# Altium schematic symbol library PGS.SchLib: 33 symbols
Pins are listed as number, name and electrical type; pins without a type are passive.

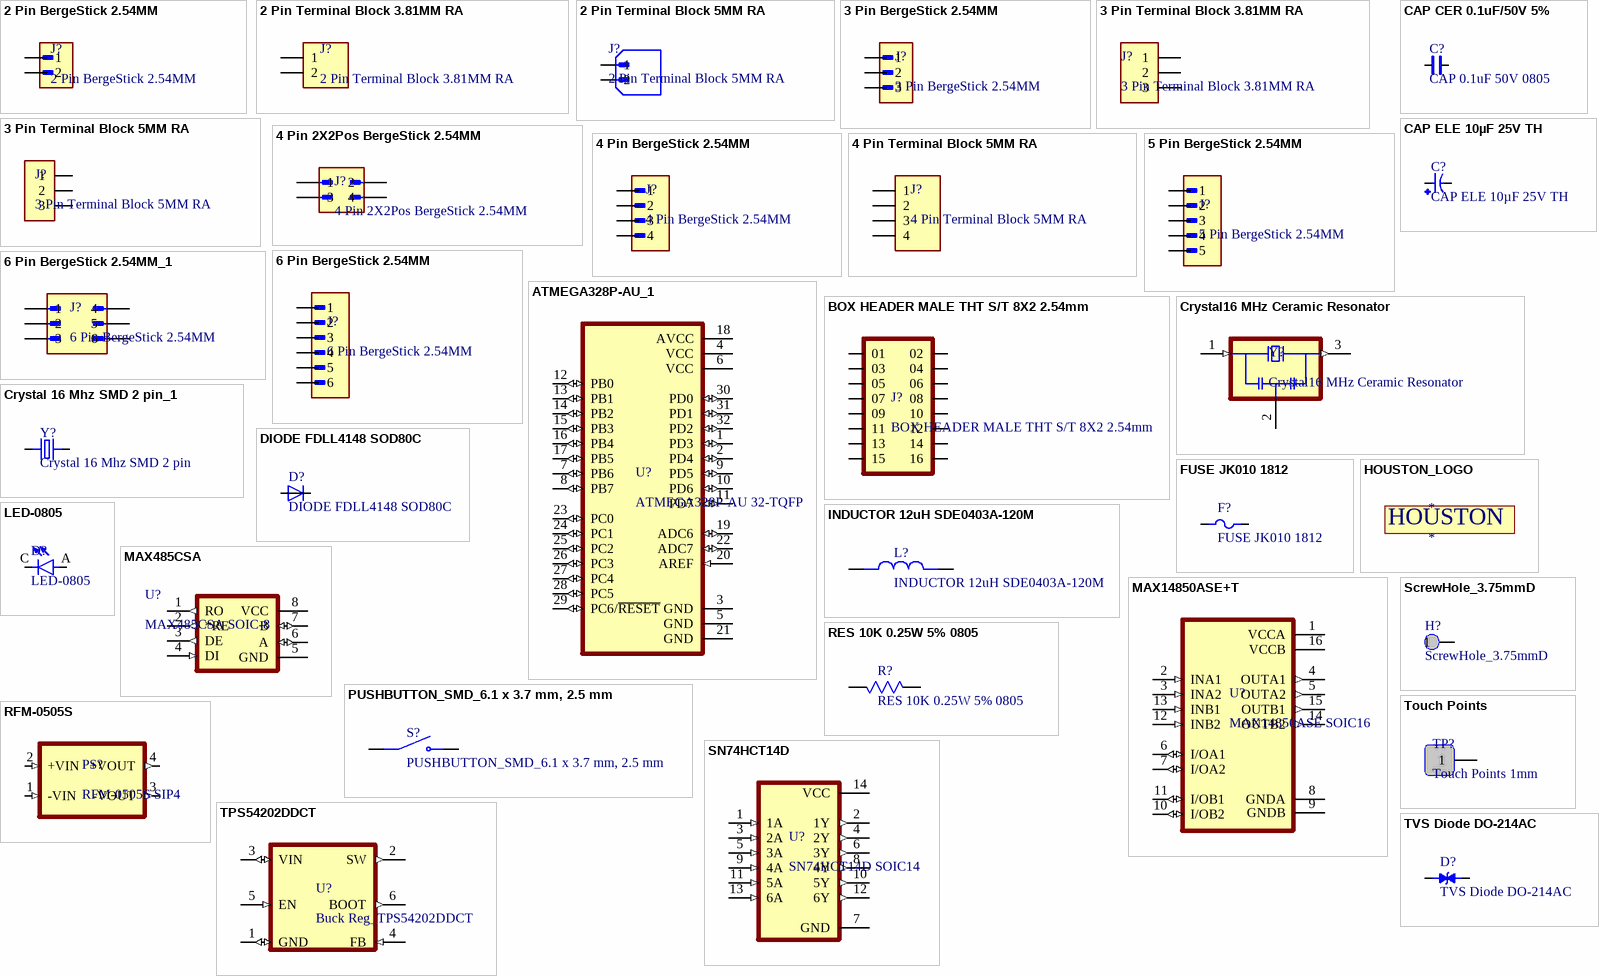
[diagram p0: symbols 2 Pin BergeStick 2.54MM to TVS Diode DO-214AC]

## 2 Pin BergeStick 2.54MM
designator J?
2 Pin 2Pos THT S/T BergeStick 2.54MM Amphenol 68000-402HLF 3A; Package: None; Price: None; Value: *; MP: 68000-402HLF; Availability: Unavailable
footprint 2 Pin BergeStick 2.54MM (2 Pin 2Pos THT BergeStick 2.54MM Amphenol 68000-402HLF 3A AMPHENOL_68000-402HLF)
pins: 1, 2

## 2 Pin Terminal Block 3.81MM RA
designator J?
2 Pin Terminal Block HDR 3.81MM THT RA TBP02R138102BE; MF: Same Sky; MP: TBP02R1-381-02BE; SnapEDA_Link: https://www.snapeda.com/parts/TBP02R1-381-02BE/Same+Sky/view-part/?ref=snap; Package: None; Value: *; Check_prices: https://www.snapeda.com/parts/TBP02R1-381-02BE/Same+Sky/view-part/?ref=eda
footprint 2 Pin Terminal Block 3.81MM RA (2 Pin Terminal Block HDR 3.81MM THT RA TBP02R138102BE)
pins: 1, 2

## 2 Pin Terminal Block 5MM RA
designator J?
2 Pin Terminal Block HDR 5MM THT RA _OQ0271510000G; MF: Amphenol Anytek; SnapEDA_Link: https://www.snapeda.com/parts/OQ0271510000G/Amphenol/view-part/?ref=snap; Package: None; Value: *; MP: OQ0271510000G; Check_prices: https://www.snapeda.com/parts/OQ0271510000G/Amphenol/view-part/?ref=eda
footprint 2 Pin Terminal Block 5MM RA (2 Pin Terminal Block HDR 5MM THT RA_OQ0271510000G)
pins: 1, 2

## 3 Pin BergeStick 2.54MM
designator J?
3 Pin 3Pos THT S/T BergeStick 2.54MM Amphenol 68001-403HLF 3A; Package: None; Price: None; Value: *; MP: 68001-403HLF; Availability: Unavailable
footprint 3 Pin BergeStick 2.54MM (3 Pin 3Pos THT BergeStick 2.54MM Amphenol 68001-403HLF 3A)
pins: 1, 2, 3

## 3 Pin Terminal Block 3.81MM RA
designator J?
3 Pin Terminal Block HDR 3.81MM THT RA 284513-3; MF: TE Connectivity; Purchase-URL: https://pricing.snapeda.com/search/part/284513-3/?ref=eda; Package: None; MP: 284513-3; EU_RoHS_Compliance: Compliant; Price: None; Availability: In Stock; Value: *; Check_prices: https://www.snapeda.com/parts/284513-3/TE+Connectivity+AMP+Connectors/view-part/?ref=eda; SnapEDA_Link: https://www.snapeda.com/parts/284513-3/TE+Connectivity+AMP+Connectors/view-part/?ref=snap
footprint 3 Pin Terminal Block 3.81MM RA (3 Pin Terminal Block HDR 3.81MM THT RA 284513-3)
pins: 1, 2, 3

## 3 Pin Terminal Block 5MM RA
designator J?
3 Pin Terminal Block HDR 5MM THT RA 231-433_001-000; MP: 231-433/001-000; MF: WAGO; SnapEDA_Link: https://www.snapeda.com/parts/231-433/001-000/WAGO/view-part/482062/?ref=snap; Package: None; Availability: Unavailable; Price: None; Value: *
footprint 3 Pin Terminal Block 5MM RA (3 Pin Terminal Block HDR 5MM THT RA 231-433_001-000)
pins: 1, 2, 3

## 4 Pin 2X2Pos BergeStick 2.54MM
designator J?
4 Pin 2X2Pos THT S/T BergeStick 2.54MM Amphenol 67997-104HLF 3A; MF: Amphenol ICC; Value: *; Package: None; Purchase-URL: https://pricing.snapeda.com/search/part/67997-104HLF/?ref=eda; Digi-Key_Part_Number: 609-3225-ND; Check_prices: https://www.snapeda.com/parts/67997-104HLF/Amphenol+FCI/view-part/?ref=eda; MP: 67997-104HLF; SnapEDA_Link: https://www.snapeda.com/parts/67997-104HLF/Amphenol+FCI/view-part/?ref=snap
footprint 4 Pin BergeStick 2.54MM (4 Pin 2X2Pos THT BergeStick 2.54MM Amphenol 67997-104HLF 3A AMPHENOL_67997-104HLF)
pins: 1, 2, 3, 4

## 4 Pin BergeStick 2.54MM
designator J?
4 Pin 4Pos THT S/T BergeStick 2.54MM Amphenol 68001-104HLF 3A; SnapEDA_Link: https://www.snapeda.com/parts/68001-104HLF/Amphenol/view-part/?ref=snap; Package: None; Value: *; MF: Amphenol; MP: 68001-104HLF; Check_prices: https://www.snapeda.com/parts/68001-104HLF/Amphenol/view-part/?ref=eda
footprint 4 Pin BergeStick 2.54MM - duplicate (4 Pin 4Pos THT BergeStick 2.54MM Amphenol 68001-104HLF 3A AMPHENOL_68001-104HLF)
pins: 1, 2, 3, 4

## 4 Pin Terminal Block 5MM RA
designator J?
4 Pin Terminal Block HDR 5MM THT RA OQ0471510000G; MF: Amphenol Anytek; Purchase-URL: https://pricing.snapeda.com/search/part/OQ0471510000G/?ref=eda; Package: None; MP: OQ0471510000G; Price: None; Availability: Warning; Value: *; Check_prices: https://www.snapeda.com/parts/OQ0471510000G/Amphenol/view-part/4900937/?ref=eda; SnapEDA_Link: https://www.snapeda.com/parts/OQ0471510000G/Amphenol/view-part/4900937/?ref=snap
footprint 4 Pin Terminal Block 5MM RA (4 Pin Terminal Block HDR 5MM THT RA OQ0471510000G)
pins: 1, 2, 3, 4

## 5 Pin BergeStick 2.54MM
designator J?
5 Pin 5Pos THT S/T BergeStick 2.54MM Amphenol68002-405HLF 3A; Package: None; Price: None; Value: *; MP: 68002-405HLF; Availability: Unavailable
footprint 5 Pin BergeStick 2.54MM (5 Pin 5Pos THT BergeStick 2.54MM Amphenol 68002-405HLF 3A AMPHENOL_68002-405HLF)
pins: 1, 2, 3, 4, 5

## 6 Pin BergeStick 2.54MM
designator J?
6 Pin 6Pos THT S/T BergeStick 2.54MM Amphenol 68604-406HLF 3A; MF: AMPHENOL ICC / FCI; SnapEDA_Link: https://www.snapeda.com/parts/68604-406HLF/Amphenol/view-part/?ref=snap; Package: None; Value: *; MP: 68604-406HLF; Check_prices: https://www.snapeda.com/parts/68604-406HLF/Amphenol/view-part/?ref=eda
footprint 6 Pin BergeStick 2.54MM (6 Pin 6Pos THT BergeStick 2.54MM Amphenol 68604-406HLF 3A AMPHENOL_68604-406HLF)
pins: 1, 2, 3, 4, 5, 6

## 6 Pin BergeStick 2.54MM_1
designator J?, comment 6 Pin BergeStick 2.54MM
6 Pin 3X3Pos THT S/T BergeStick 2.54MM Amphenol 69192-406HLF; MF: AMPHENOL ICC / FCI; Package: None; Digi-Key_Part_Number: 609-4711-ND; Check_prices: https://www.snapeda.com/parts/69192-406HLF/Amphenol/view-part/?ref=eda; Value: *; MP: 69192-406HLF; Purchase-URL: https://pricing.snapeda.com/search/part/69192-406HLF/?ref=eda; SnapEDA_Link: https://www.snapeda.com/parts/69192-406HLF/Amphenol/view-part/?ref=snap
footprint 6 Pin BergeStick 2.54MM - duplicate (6 Pin 3X3Pos THT S/T BergeStick 2.54MM Amphenol 69192-406HLF AMPHENOL_69192-406HLF)
pins: 1, 2, 3, 4, 5, 6

## ATMEGA328P-AU_1
designator U?, comment ATMEGA328P-AU 32-TQFP
AVR AVRÂ® ATmega Microcontroller IC 8-Bit 20MHz 32KB (16K x 16) FLASH 32-TQFP (7x7) SMT; MF: Microchip; SnapEDA_Link: https://www.snapeda.com/parts/ATMEGA328P-AU/Microchip/view-part/?ref=snap; Package: TQFP-32 Microchip; Value: *; MP: ATMEGA328P-AU; Check_prices: https://www.snapeda.com/parts/ATMEGA328P-AU/Microchip/view-part/?ref=eda
footprint ATMEGA328P-AU 32-TQFP (AVR AVRÂ® ATmega Microcontroller IC 8-Bit 20MHz 32KB (16K x 16) FLASH 32-TQFP (7x7)QFP80P900X900X120-32N)
pins: 1 PD3 (io), 2 PD4 (io), 3 GND (power), 4 VCC (power), 5 GND (power), 6 VCC (power), 7 PB6 (io), 8 PB7 (io), 9 PD5 (io), 10 PD6 (io), 11 PD7 (io), 12 PB0 (io), 13 PB1 (io), 14 PB2 (io), 15 PB3 (io), 16 PB4 (io), 17 PB5 (io), 18 AVCC (power), 19 ADC6 (io), 20 AREF (in), 21 GND (power), 22 ADC7 (io), 23 PC0 (io), 24 PC1 (io), 25 PC2 (io), 26 PC3 (io), 27 PC4 (io), 28 PC5 (io), 29 PC6/~{RESET} (io), 30 PD0 (io), 31 PD1 (io), 32 PD2 (io)

## BOX HEADER MALE THT S/T 8X2 2.54mm
designator J?
THT BOX HEADER MALE S/T 8X2 2.54mm 16 pin; MP: TSS-108-01-T-D; Availability: Unavailable; Value: *; Price: None; Package: None
footprint BOX HEADER MALE 8X2 2.54mm (BOX HEADER MALE 8X2 2.54mm 16 pin)
pins: 01, 02, 03, 04, 05, 06, 07, 08, 09, 10, 11, 12, 13, 14, 15, 16

## CAP CER 0.1uF/50V 5%
designator C?, comment CAP 0.1uF 50V 0805
CAP CER 0.1uF/50V  Ceramic Capacitor X7R 0805 (2012 Metric) SMT; MF: Samsung; MP: CL21B104KCFNNNE; Purchase-URL: https://pricing.snapeda.com/search?q=CL21B104KCFNNNE&ref=eda; Package: 0805 Samsung; Check_prices: https://www.snapeda.com/parts/CL21B104KCFNNNE/Samsung+Electro-Mechanics/view-part/?ref=eda; Value: *; SnapEDA_Link: https://www.snapeda.com/parts/CL21B104KCFNNNE/Samsung+Electro-Mechanics/view-part/?ref=snap; Digi-Key_Part_Number: 1276-6840-2-ND
footprint CAP CER 0.1uF/50V 5%
pins: 1, 2

## CAP ELE 10µF 25V TH
designator C?
10µF 25V Aluminum Electrolytic Capacitors Radial Lead Type THT, Dia-5mm, Pitch-2mm ECEA1EN100UI; MF: Panasonic; Package: RADIAL-2 Panasonic; Purchase-URL: https://pricing.snapeda.com/search/part/ECEA1EN100UI/?ref=eda; Value: *; Digi-Key_Part_Number: ECE-A1EN100UI-ND; SnapEDA_Link: https://www.snapeda.com/parts/ECEA1EN100UI/Panasonic/view-part/5788532/?ref=snap; MP: ECEA1EN100UI; Check_prices: https://www.snapeda.com/parts/ECEA1EN100UI/Panasonic/view-part/5788532/?ref=eda
footprint CAP ELE 10µF 25V TH (10µF 25V Aluminum Electrolytic Capacitors Radial Lead Type TH, Dia-5mm, Pitch-2mm ECEA1EN100UI)
pins: N, P

## Crystal16 MHz Ceramic Resonator
designator Y?
16 MHz Ceramic Resonator Built in Capacitor 15 pF Â±0.3% -20Â°C ~ 80Â°C SMT-CSTCE16M0V53-R0; MF: Murata; MP: CSTCE16M0V53-R0-; SnapEDA_Link: https://www.snapeda.com/parts/CSTCE16M0V53-R0-/Murata/view-part/?ref=snap; Package: None; Value: *; Check_prices: https://www.snapeda.com/parts/CSTCE16M0V53-R0-/Murata/view-part/?ref=eda
footprint Crystal16 MHz Ceramic Resonator (16 MHz Ceramic Resonator Built in Capacitor 15 pF Â±0.3% -20Â°C ~ 80Â°C Surface Mount-CSTCE16M0V53-R0)
pins: 1 IN (in), 2 GND (power), 3 OUT (out)

## Crystal 16 Mhz SMD 2 pin_1
designator Y?, comment Crystal 16 Mhz SMD 2 pin
16 MHz Â±30ppm Crystal 20pF 60 Ohms HC-49/US FOXSDLF/128-20 16 Mhz Crystal SMD –CSM-4ALX(28ALX) 12.5mmX4.85mmX4mm; MF: Fox Electronics; SnapEDA_Link: https://www.snapeda.com/parts/FOXSDLF/128-20/Fox+Electronics/view-part/?ref=snap; Package: HC49SD Fox Electronics; Value: *; MP: FOXSDLF/128-20; Check_prices: https://www.snapeda.com/parts/FOXSDLF/128-20/Fox+Electronics/view-part/?ref=eda
footprint Crystal 16 Mhz SMD 2 pin (16 MHz Â±30ppm Crystal 20pF 60 Ohms HC-49/US FOXSDLF/128-20 16 Mhz Crystal SMD –CSM-4ALX(28ALX) 12.5mmX4.85mmX4mm)
footprint Crystal 16 Mhz SMD 2 pin (16 MHz Â±30ppm Crystal 20pF 60 Ohms HC-49/US FOXSDLF/128-20 16 Mhz Crystal SMD –CSM-4ALX(28ALX) 12.5mmX4.85mmX4mm)
pins: 1, 2

## DIODE FDLL4148 SOD80C
designator D?
FDLL4148 Diode Standard 75V 200mA _DC_ SMT LLDS; MiniMelf DIODE SOD80C PMLL4148L; MF: Nexperia USA; Value: *; Price: None; Package: SOD-80 NXP Semiconductors; SnapEDA_Link: https://www.snapeda.com/parts/PMLL4148L/Nexperia%20USA%20Inc./view-part/9225/?ref=snap; Availability: Unavailable; MP: PMLL4148L
footprint DIODE SOD80C (Diode Standard 75V 200mA _DC_ Surface Mount LLDS; MiniMelf DIODE SOD80C PMLL4148L)
pins: 1 K, 2 A

## FUSE JK010 1812
designator F?
FUSE JK010 Polymeric PTC Resettable Fuse 60V 100 mA 0.8W SMT 1812 (4532 Metric), Concave HUAAN MF-MSMF010-60V; MP: MF-MSMF010-2; MF: Bourns; Price: None; Availability: In Stock; Package: 1812 Bourns; SnapEDA_Link: https://www.snapeda.com/parts/MF-MSMF010-2/Bourns/view-part/?ref=snap; Check_prices: https://www.snapeda.com/parts/MF-MSMF010-2/Bourns/view-part/?ref=eda; Value: *; Purchase-URL: https://pricing.snapeda.com/search/part/MF-MSMF010-2/?ref=eda
footprint FUSE JK010 1812 (FUSE JK010 Polymeric PTC Resettable Fuse 60V 100 mA 0.8W Ih Surface Mount 1812 (4532 Metric), Concave HUAAN MF-MSMF010-60V)
pins: 1, 2

## HOUSTON_LOGO
designator *
footprint HOUSTON_LOGO
text: HOUSTON

## INDUCTOR 12uH SDE0403A-120M
designator L?
INDUCTOR_2020(5.5mmX4.5mm)  SMT INDUCTOR 12uH SDE0403A-120M0 LQH5BPB4R7NT0L; Package: None; Price: None; Value: *; MP: LQH5BPB4R7NT0L; Availability: Unavailable
footprint INDUCTOR 12uH SDE0403A-120M (INDUCTOR_2020(5.5mmX4.5mm)  SMT INDUCTOR 12uH SDE0403A-120M LQH5BPB4R7NT0L)
pins: 1, 2

## LED-0805
designator D?
Red 640nm LED Indication - Discrete 1.85V 0805 (2012 Metric) SMT APT2012SRCPRV; MF: Kingbright; SnapEDA_Link: https://www.snapeda.com/parts/APT2012SRCPRV/Kingbright/view-part/?ref=snap; Package: 0805 Kingbright; Value: *; MP: APT2012SRCPRV; Check_prices: https://www.snapeda.com/parts/APT2012SRCPRV/Kingbright/view-part/?ref=eda
footprint LED-0805 (Red 640nm LED Indication - Discrete 1.85V 0805 (2012 Metric) APT2012SRCPRV)
pins: A, C

## MAX485CSA
designator U?, comment MAX485CSA SOIC-8
MAX485CSA-RS-485/RS-422 Transceivers, SMT, SOIC-8; MF: Analog Devices; MP: MAX485CSA+; SnapEDA_Link: https://www.snapeda.com/parts/MAX485CSA+/Analog+Devices/view-part/?ref=snap; Package: SOIC-8 Maxim; Value: *; Check_prices: https://www.snapeda.com/parts/MAX485CSA+/Analog+Devices/view-part/?ref=eda
footprint MAX485CSA (MAX485CSA-RS-485/RS-422 Transceivers, SOIC-8)
pins: 1 RO (out), 2 *RE (out), 3 DE (out), 4 DI (in), 5 GND (power), 6 A (io), 7 B (io), 8 VCC (power)

## MAX14850ASE+T
designator U?, comment MAX14850ASE SOIC16
MAX14850ASE SOIC16,SMT Six-Channel Digital Isolator; MF: Analog Devices; MP: MAX14850ASE+T; SnapEDA_Link: https://www.snapeda.com/parts/MAX14850ASE+T/Analog+Devices/view-part/?ref=snap; Package: SOIC-16 Maxim Integrated; Value: *; Check_prices: https://www.snapeda.com/parts/MAX14850ASE+T/Analog+Devices/view-part/?ref=eda
footprint MAX14850ASE (MAX14850ASE SOIC16 Six-Channel Digital Isolator SOIC127P600X175-16N)
pins: 1 VCCA (power), 2 INA1 (in), 3 INA2 (in), 4 OUTA1 (out), 5 OUTA2 (out), 6 I/OA1 (io), 7 I/OA2 (io), 8 GNDA (power), 9 GNDB (power), 10 I/OB2 (io), 11 I/OB1 (io), 12 INB2 (in), 13 INB1 (in), 14 OUTB2 (out), 15 OUTB1 (out), 16 VCCB (power)

## PUSHBUTTON_SMD_6.1 x 3.7 mm, 2.5 mm
designator S?
6.1 x 3.7 mm, 2.5 mm Actuator Height, 260 gf, Red, SMT, SPST, Tactile Switch, TS09-63-25-R-260-SMT-TR; MF: Same Sky; SnapEDA_Link: https://www.snapeda.com/parts/TS09-63-25-R-260-SMT-TR/Same+Sky/view-part/?ref=snap; Package: None; Value: *; MP: TS09-63-25-R-260-SMT-TR; Check_prices: https://www.snapeda.com/parts/TS09-63-25-R-260-SMT-TR/Same+Sky/view-part/?ref=eda
footprint PUSHBUTTON_SMD_6.1 x 3.7 mm, 2.5 mm (6.1 x 3.7 mm, 2.5 mm Actuator Height, 260 gf, Red, Surface Mount, SPST, Tactile Switch, TS09-63-25-R-260-SMT-TR)
pins: 1, 2

## RES 10K 0.25W 5% 0805
designator R?
RESISTOR, THICK FILM, 10K, 5%, 0805 0.25W SMT; MP: ERJ-6GEYJ103V; MF: Panasonic Electronic; Price: None; Check_prices: https://www.snapeda.com/parts/ERJ-6GEYJ103V/Panasonic+Electronic+Components/view-part/?ref=eda; Package: 805-2 Panasonic; Purchase-URL: https://pricing.snapeda.com/search/part/ERJ-6GEYJ103V/?ref=eda; Availability: In Stock; SnapEDA_Link: https://www.snapeda.com/parts/ERJ-6GEYJ103V/Panasonic+Electronic+Components/view-part/?ref=snap; Value: *
footprint RES 0805 10K/0.25W 5% (RESISTOR, THICK FILM, 10K, 5%, 0805, FRESISTOR, THICK FILM, 10K, 5%, 0805, FULL REEL Product Range:PANASONIC - ERJ Series)
pins: 1, 2

## RFM-0505S
designator PS?, comment RFM-0505S SIP4
DC-DC Converter/Isolator, SIP4, THT, 1kV unreg, Single Output, 1W, 5V Out, RFM Series | RECOM Power Inc. RFM-0505S; SnapEDA_Link: https://www.snapeda.com/parts/RFM-0505S/Recom+Power/view-part/?ref=snap; Package: SIP-4 Recom Power; Value: *; MF: Recom Power; MP: RFM-0505S; Check_prices: https://www.snapeda.com/parts/RFM-0505S/Recom+Power/view-part/?ref=eda
footprint RFM-0505S (DC-DC Converter/Isolator, SIP4, 1kV unreg, Single Output, 1W, 5V Out, RFM Series RFM-0505S)
pins: 1 -VIN (in), 2 +VIN (in), 3 -VOUT (out), 4 +VOUT (out)

## ScrewHole_3.75mmD
designator H?
SCREW HEAD DIA 4.5MM, SREW LEG DIA 3 MM
footprint ScrewHole_3.75mmD - duplicate (SCREW HEAD DIA 4.5MM, SREW LEG DIA 3 MM)
pins: 1

## SN74HCT14D
designator U?, comment SN74HCT14D SOIC14
SN74HCT14D SOIC14 6-ch, 4.5-V to 5.5-V inverters with Schmitt-Trigger inputs SMT; MF: Texas Instruments; SnapEDA_Link: https://www.snapeda.com/parts/SN74HCT14D/Texas+Instruments/view-part/?ref=snap; Package: SOIC-14 Texas Instruments; Value: *; MP: SN74HCT14D; Check_prices: https://www.snapeda.com/parts/SN74HCT14D/Texas+Instruments/view-part/?ref=eda
footprint SN74HCT14D SOIC14 (SN74HCT14D SOIC14 6-ch, 4.5-V to 5.5-V inverters with Schmitt-Trigger inputs)
pins: 1 1A (in), 2 1Y (out), 3 2A (in), 4 2Y (out), 5 3A (in), 6 3Y (out), 7 GND (power), 8 4Y (out), 9 4A (in), 10 5Y (out), 11 5A (in), 12 6Y (out), 13 6A (in), 14 VCC (power)

## Touch Points
designator TP?, comment Touch Points 1mm
Touch Points 0.75mm to1mm
footprint Touch Points 1mm (Touch Points 0.75mm to1mm)
pins: 1

## TPS54202DDCT
designator U?, comment Buck Reg_TPS54202DDCT
4.5V to 28V Input, 2A Output, EMI Friendly Synchronous Step-Down SMT Converter TPS54202DDCT; MF: Texas Instruments; SnapEDA_Link: https://www.snapeda.com/parts/TPS54202DDCT/Texas+Instruments/view-part/?ref=snap; Package: SOT-23-THN-6 Texas Instruments; Value: *; MP: TPS54202DDCT; Check_prices: https://www.snapeda.com/parts/TPS54202DDCT/Texas+Instruments/view-part/?ref=eda
footprint Buck Reg_TPS54202DDCT (4.5V to 28V Input, 2A Output, EMI Friendly Synchronous Step-Down Converter TPS54202DDCT)
pins: 1 GND (io), 2 SW (out), 3 VIN (io), 4 FB (in), 5 EN (in), 6 BOOT (out)

## TVS Diode DO-214AC
designator D?
TVS Diode BiDirectional LittileFuse 1.5SMC6.8CA DO-214AC 6V8C SMT; MP: SMAJ7.5CA; Availability: Unavailable; Package: None; Value: *; Price: None
footprint TVS Diode DO-214AC (TVS Diode BiDirectional LittileFuse 1.5SMC6.8CA DO-214AC 6V8C)
pins: 1, 2